# Altium footprint library A-Assembly.PcbLib: 2 footprints
Each footprint in its own frame and in the unit in brackets; x right, y up, seen from the top. Pads: shape width x height; smd on the part's side, far side on the other; paste and mask are expansions set on the pad; w line width, h text height; cw(c..) or ccw(c..) is an arc to the next point about the centre after c.
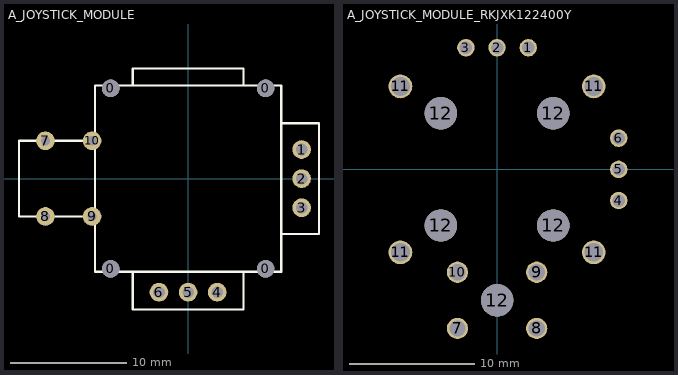
[diagram p0: the footprints below, top view; thin cyan lines are the x and y axes]

## A_JOYSTICK_MODULE [mm]
height 29.7
pads (14):
  round 1.5 hole 1.5 unplated: 0(-6.647,-7.75) 0(-6.647,7.75) 0(6.653,-7.75) 0(6.653,7.75)
  round 1.6 hole 1: 1(9.753,2.5) 2(9.753,0) 3(9.753,-2.5) 4(2.503,-9.75) 5(0.003,-9.75) 6(-2.497,-9.75)
  round 1.6 hole 0.8: 7(-12.247,3.25) 8(-12.247,-3.25) 9(-8.247,-3.25) 10(-8.247,3.25)
Top Overlay:
  lines w0.2: -7.997,-3.25 -14.517,-3.25 -14.517,3.25 -7.997,3.25 ; -4.747,-8 -4.747,-11.24 4.753,-11.24 4.753,-8 ; -4.747,8 -4.747,9.46 4.753,9.46 4.753,8 ; 8.003,-4.75 11.243,-4.75 11.243,4.75 8.003,4.75 ; -7.997,-8 -7.997,8 8.003,8 8.003,-8 -7.997,-8

## A_JOYSTICK_MODULE_RKJXK122400Y [mm] "ThumbPointer™ (Stick Controller) RKJXK/RKJXV Series"
height 12.9
pads (19):
  round 1.4 hole 1: 1(2.5,9.75) 2(0,9.75) 3(-2.5,9.75) 4(9.75,-2.5) 5(9.75,0) 6(9.75,2.5)
  round 1.7 hole 1.3: 7(-3.175,-12.75) 8(3.175,-12.75) 9(3.175,-8.25) 10(-3.175,-8.25)
  round 1.9 hole 1.5: 11(-7.75,-6.65) 11(-7.75,6.65) 11(7.75,-6.65) 11(7.75,6.65)
  round 2.6 hole 2.6 unplated paste+0 mask+0: 12(-4.5,-4.5) 12(-4.5,4.5) 12(0,-10.5) 12(4.5,-4.5) 12(4.5,4.5)
3D body "RKJXK122400Y.STEP": height 3.7, standoff -19.3, extent -9.525,-14.34 11.225,11.225